# Altium schematic symbol library SCH - SENSOR - CURRENT - ALLEGRO ACS724LLC.SCHLIB: 1 symbol
Pins are listed as number, name and electrical type; pins without a type are passive.

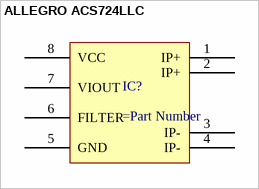
[diagram p0: symbol ALLEGRO ACS724LLC]

## ALLEGRO ACS724LLC
designator IC?
pins: 1 IP+, 2 IP+, 3 IP-, 4 IP-, 5 GND, 6 FILTER, 7 VIOUT, 8 VCC